# EAGLE library part 8PIN_TERMINAL_5MM (library !Redox)
8 Pin Screw Terminal Block, 5mm pitch
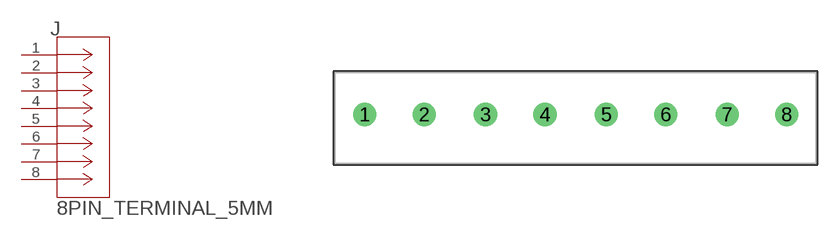
[diagram p2: symbol with the pads of 8PIN_TERMINAL_5MM; footprint 8PIN_TERMINAL_5MM]

Designator prefix J

## 8PIN_TERMINAL_5MM  [8PIN_TERMINAL_5MM]
1  1  pas
2  2  pas
3  3  pas
4  4  pas
5  5  pas
6  6  pas
7  7  pas
8  8  pas

## Footprint 8PIN_TERMINAL_5MM (pad centres in mm)
drill 1.295 pad 1.803: 1 0,0; 2 5.004,0; 3 10.16,0; 4 15.164,0; 5 20.32,0; 6 25.324,0; 7 30.48,0; 8 35.484,0